# Altium schematic symbol library HLK-PM03.SchLib: 1 symbol
Pins are listed as number, name and electrical type; pins without a type are passive.

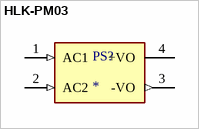
[diagram p0: symbol HLK-PM03]

## HLK-PM03
designator PS?
MF: {'manufacturer': u'Hi-link'}; MP: HLK-PM03; Package: None; Price: None; Value: *; Availability: Unavailable
footprint CONV_HLK-PM03
pins: 1 AC1 (in), 2 AC2 (in), 3 -VO (out), 4 +VO (power)